# Altium schematic symbol library LTC185X.SchLib: 1 symbol
Pins are listed as number, name and electrical type; pins without a type are passive.

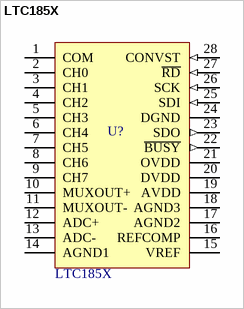
[diagram p0: symbol LTC185X]

## LTC185X
designator U?  Part No.: LTC185X  (hidden comment: *)
8-Channel, 12-/14-/16-Bit, 100ksps SoftSpan A/D Converters with Shutdown; Manufacturer: Linear; Price Est.: $23.33; Vendor: Linear
footprint SSOP28 (SSOP; 28 Leads; Body Width 5.3 mm; Pitch 0.65 mm)
pins: 1 COM, 2 CH0, 3 CH1, 4 CH2, 5 CH3, 6 CH4, 7 CH5, 8 CH6, 9 CH7, 10 MUXOUT+, 11 MUXOUT-, 12 ADC+, 13 ADC-, 14 AGND1, 15 VREF, 16 REFCOMP, 17 AGND2, 18 AGND3, 19 AVDD, 20 DVDD, 21 OVDD, 22 ~{BUSY} (out), 23 SDO (out), 24 DGND, 25 SDI (in), 26 SCK (in), 27 ~{RD} (in), 28 CONVST (in)